# Altium schematic symbol library CN-1P-F-TB2.SchLib: 1 symbol
Pins are listed as number, name and electrical type; pins without a type are passive.

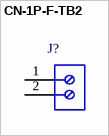
[diagram p0: symbol CN-1P-F-TB2]

## CN-1P-F-TB2
designator J?
pins: 1, 2